# Altium footprint library Led_Matrix.PcbLib: 23 footprints (part 1 of 2)
Each footprint in its own frame and in the unit in brackets; x right, y up, seen from the top. Pads: shape width x height; smd on the part's side, far side on the other; paste and mask are expansions set on the pad; w line width, h text height; cw(c..) or ccw(c..) is an arc to the next point about the centre after c.
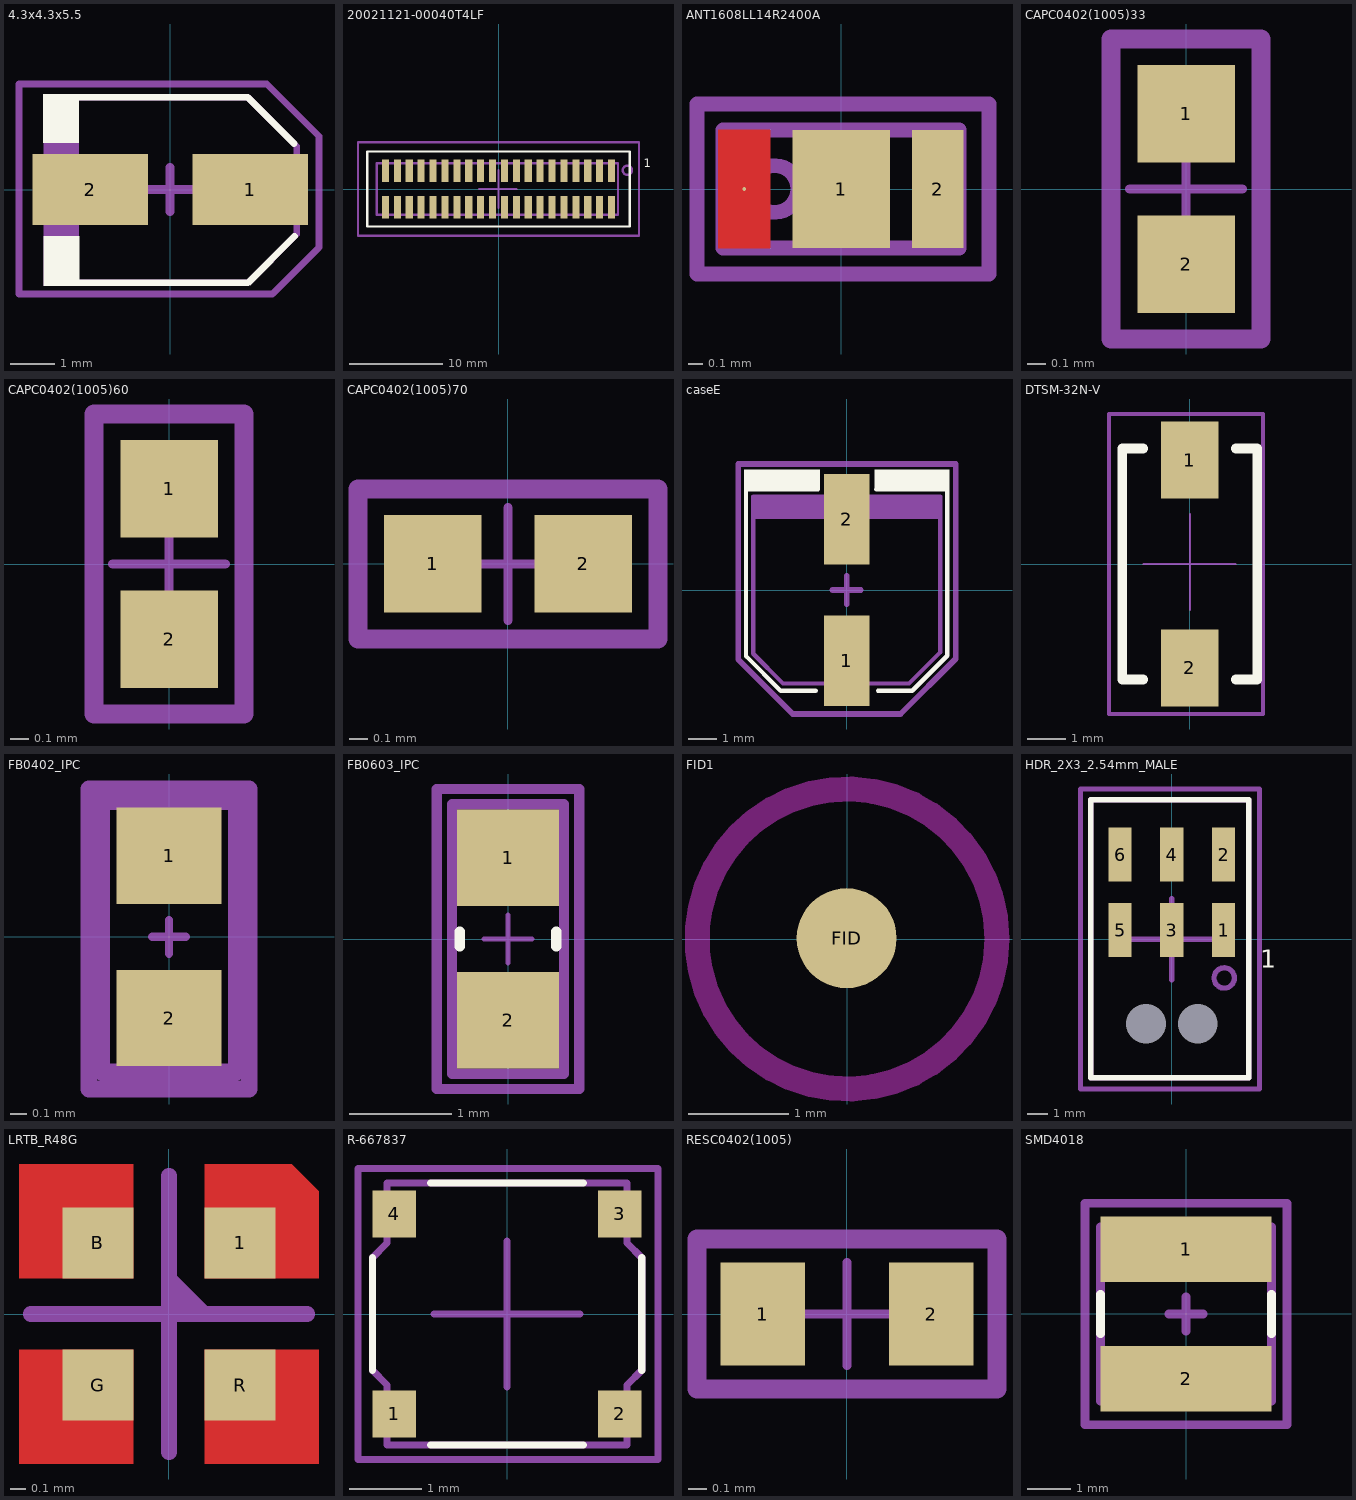
[diagram p0: the footprints below, top view; thin cyan lines are the x and y axes]

## 4.3x4.3x5.5 [mm]
height 5.5
pads (2):
  rect 2.6x1.6 smd: 1(1.8,0) 2(-1.8,0)
Top Overlay:
  region: -2.04,-1.05 -2.85,-1.05 -2.85,-2.175 -2.04,-2.175
  region: -2.05,2.15 -2.86,2.15 -2.86,1.05 -2.05,1.05
  lines w0.15: -2.775,-2.1 1.75,-2.1 2.8,-1.05 ; -2.775,2.075 1.75,2.075 2.788,1.037
Top Solder:
  text "+" at 3.925,-0.465 h2
Top Assembly:
  rectangle: -2.85,-2.175 -2.05,2.15
  lines w0.15: -2.75,-2.1 1.75,-2.1 2.85,-1 2.85,0.975 1.75,2.075 -2.75,2.075
  text "1" at 1.45,1 h1
Top Designator:
  text ".Designator" at -2.3,-0.1 h1
Top Value:
  text ".Comment" at -2.8,-1.739 h1
Top Courtyard:
  lines w0.15: -3.375,2.35 -3.4,2.375 ; -3.4,2.375 -3.4,2.15 -3.4,2.125 -3.4,-2.35 2.3,-2.35 3.35,-1.3 3.35,1.2 2.175,2.375 -3.4,2.375
  lines w0.2: -0.5,0 0.5,0 ; 0,-0.5 0,0.5
3D body "865060640002.stp": height 5.5, standoff 0, extent -2.725,-2.225 2.575,2.275

## 20021121-00040T4LF [mm]
pads (40):
  rect 0.76x2.4 smd: 1(12.065,1.95) 2(12.065,-1.95) 3(10.795,1.95) 4(10.795,-1.95) 5(9.525,1.95) 6(9.525,-1.95) 7(8.255,1.95) 8(8.255,-1.95) 9(6.985,1.95) 10(6.985,-1.95) 11(5.715,1.95) 12(5.715,-1.95) 13(4.445,1.95) 14(4.445,-1.95) 15(3.175,1.95) 16(3.175,-1.95) 17(1.905,1.95) 18(1.905,-1.95) 19(0.635,1.95) 20(0.635,-1.95) 21(-0.635,1.95) 22(-0.635,-1.95) 23(-1.905,1.95) 24(-1.905,-1.95) 25(-3.175,1.95) 26(-3.175,-1.95) 27(-4.445,1.95) 28(-4.445,-1.95) 29(-5.715,1.95) 30(-5.715,-1.95) 31(-6.985,1.95) 32(-6.985,-1.95) 33(-8.255,1.95) 34(-8.255,-1.95) 35(-9.525,1.95) 36(-9.525,-1.95) 37(-10.795,1.95) 38(-10.795,-1.95) 39(-12.065,1.95) 40(-12.065,-1.95)
Top Overlay:
  lines w0.254: -14,-4 -14,4 14,4 14,-4 -14,-4
  text "1" at 15.5,2 h1.52
Top Solder:
  text "1" at 15.5,2 h1.52
Top Assembly:
  circle w0.254: c13.75,2 r0.5
  lines w0.254: -13,2.75 -13,-2.75 12.65,-2.75 ; -12.9,2.75 12.75,2.75 12.75,-2.75
Top Designator:
  text ".Designator" at -8.4,-0.312 h1.52
Top Value:
  text ".Comment" at -13.3,-3.483 h1.52
Top Courtyard:
  lines w0.254: -2.075,0 -0.075,0 1.925,0 ; 0,-2 0,2 ; -15,-5 15,-5 15,5 -15,5 -15,-5
3D body "20021121-00040XXLFc.stp": height 4.51, standoff 0.01, extent -12.7,-2.75 12.7,2.75

## ANT1608LL14R2400A [mm]
pads (3):
  rect 0.66x0.8 smd paste-0.5 mask+0.05: 1(0,0)
  rect 0.35x0.8 smd paste-0.05 mask+0.05: 2(0.655,0)
  round 0.025 smd paste-0.05 mask+0.05: 3(-0.655,0)
Top Layer:
  region: -0.83,-0.4 -0.83,0.4 -0.48,0.4 -0.48,-0.4
Top Paste:
  region: 0.24,-0.055 0.04,-0.055 0.04,-0.305 0.24,-0.305
  rectangle: -0.24,-0.305 -0.04,-0.055
  region: 0.24,0.305 0.04,0.305 0.04,0.055 0.24,0.055
  rectangle: -0.24,0.055 -0.04,0.305
  rectangle: -0.785,-0.35 -0.535,0.35
Top Assembly:
  circle w0.1: c-0.45,0 r0.158
  lines w0.1: -0.8,-0.4 -0.8,0.4 0.8,0.4 0.8,-0.4 -0.8,-0.4
Top Designator:
  text ".Designator" at -0.142,0.062 h0.5
Top Value:
  text ".Comment" at -0.83,-0.394 h0.5
Top Courtyard:
  lines w0.1: -0.2,0 0.2,0 ; 0,-0.2 0,0.2 ; -0.975,-0.575 -0.975,0.575 1,0.575 1,-0.575 -0.975,-0.575
3D body: height 0.4, standoff 0, extent -0.8,-0.4 0.8,0.4

## CAPC0402(1005)33 [mm] "Chip Capacitor, Body 1.0x0.5mm, Height 0.33mm, IPC High Density"
height 0.33
pads (2):
  rect 0.52x0.52 smd mask+0.05: 1(0,0.4) 2(0,-0.4)
Top Assembly:
  lines w0.1: -0.4,-0.8 0.4,-0.8 0.4,0.8 -0.4,0.8 -0.4,-0.8
Top Designator:
  text ".Designator" at 0.132,0.629 h0.3
Top Value:
  text ".Comment" at -0.297,0.75 h0.3
Top Courtyard:
  lines w0.05: -0.3,0 0.3,0 ; 0,-0.3 0,0.3 ; -0.4,-0.8 0.4,-0.8 0.4,0.8 -0.4,0.8 -0.4,-0.8
3D body "User Library-C0402-1.step": height 0.5, standoff 0, extent -0.249,-0.493 0.251,0.503

## CAPC0402(1005)60 [mm] "Chip Capacitor, Body 1.0x0.5mm, Height 0.6mm, IPC High Density"
height 0.6
pads (2):
  rect 0.52x0.52 smd mask+0.05: 1(0,0.4) 2(0,-0.4)
Top Assembly:
  lines w0.1: -0.4,-0.8 0.4,-0.8 0.4,0.8 -0.4,0.8 -0.4,-0.8
Top Designator:
  text ".Designator" at 0.087,0.767 h0.5
Top Value:
  text ".Comment" at -0.394,0.8 h0.5
Top Courtyard:
  lines w0.05: -0.3,0 0.3,0 ; 0,-0.3 0,0.3 ; -0.4,-0.8 0.4,-0.8 0.4,0.8 -0.4,0.8 -0.4,-0.8
3D body "User Library-C0402-1.step": height 0.5, standoff 0, extent -0.249,-0.493 0.251,0.503

## CAPC0402(1005)70 [mm] "Chip Capacitor, Body 1.0x0.5mm, Height 0.7mm, IPC High Density"
height 0.7
pads (2):
  rect 0.52x0.52 smd: 1(-0.4,0) 2(0.4,0)
Top Assembly:
  lines w0.1: -0.8,-0.4 -0.8,0.4 0.8,0.4 0.8,-0.4 -0.8,-0.4
Top Designator:
  text ".Designator" at -0.767,0.087 h0.5
Top Value:
  text ".Comment" at -0.8,-0.344 h0.5
Top Courtyard:
  lines w0.05: -0.3,0 0.3,0 ; 0,-0.3 0,0.3 ; -0.8,-0.4 -0.8,0.4 0.8,0.4 0.8,-0.4 -0.8,-0.4
3D body: height 0.7, standoff 0, extent 0.3,-0.3 0.55,0.3
3D body: height 0.7, standoff 0, extent -0.55,-0.3 -0.3,0.3
3D body: height 0.7, standoff 0, extent -0.3,-0.3 0.3,0.3

## caseE [mm]
height 5.5
pads (2):
  rect 1.6x3.2 smd paste+0 mask+0.076: 1(0,-2.5) 2(0,2.5)
Top Overlay:
  region: -0.936,3.554 -0.936,4.26 -3.625,4.26 -3.625,3.554
  region: 3.625,3.554 3.625,4.26 0.975,4.26 0.975,3.554
  lines w0.152: -1.095,-3.556 -1.095,-3.554 -2.331,-3.554 -3.554,-2.331 -3.554,3.554 -1.01,3.554 ; 1.05,3.553 1.228,3.553 1.229,3.554 3.554,3.554 3.554,-2.316 2.315,-3.555 1.106,-3.555
Top Solder:
  text "+" at -0.79,-4.6 h2
Top Assembly:
  region: 3.3,2.5 3.3,3.3 -3.33,3.3 -3.33,2.5
  lines w0.152: -3.3,-2.246 -2.246,-3.3 2.2,-3.3 3.3,-2.2 3.3,3.3 -3.3,3.3 -3.3,-2.246
  text "1" at 0.35,-2.65 h1
Top Designator:
  text ".Designator" at -1.25,-2 h1
Top Value:
  text ".Comment" at 1.839,-4 h1
Top Courtyard:
  lines w0.2: -0.5,0 0.5,0 ; 0,-0.5 0,0.5 ; -3.825,-2.45 -1.9,-4.375 1.9,-4.375 3.85,-2.425 3.85,4.45 -3.825,4.45 -3.825,-2.45
3D body "CAP2_5_6P6X6P6X5P5.stp": height 5.4, standoff 0, extent -3.3,-3.5 3.3,3.5

## DTSM-32N-V [mm] "tactile button 160gf"
height 5
pads (2):
  rect 1.5x2 smd: 1(0,2.7) 2(0,-2.7)
Top Overlay:
  lines w0.254: -1.209,-3 -1.759,-3 -1.759,3 -1.209,3.005 ; 1.191,-3 1.75,-3 1.75,3 ; 1.191,3 1.75,3.005
Top Assembly:
  lines w0.1: -2.1,-3.9 1.9,-3.9 1.9,3.9 -2.1,3.9 -2.1,-3.9
Top Designator:
  text ".Designator" at 0.9,2 h1
Top Value:
  text ".Comment" at -1.439,3.65 h1
Top Courtyard:
  lines w0.05: -1.209,0 0,0 ; 0,-1.2 0,0 ; 0,1.3 0,0 ; 1.191,0 0,0 ; -2.1,-3.9 -2.1,3.9 1.9,3.9 1.9,-3.9 -2.1,-3.9
3D body "4341x3.stp": height 5, standoff 0, extent -1.75,-3.65 1.75,3.65

## FB0402_IPC [mm]
pads (2):
  rect 0.62x0.57 smd paste+0 mask+0.03: 1(0,0.48) 2(0,-0.48)
Top Assembly:
  lines w0.1: -0.4,-0.8 0.4,-0.8 0.4,0.8 -0.4,0.8 -0.4,-0.8
Top Designator:
  text ".Designator" at 0.1,0.6 h0.5
Top Value:
  text ".Comment" at -0.344,0.8 h0.5
Top Courtyard:
  lines w0.05: -0.1,0 0.1,0 ; 0,-0.1 0,0.1
  lines w0.1: -0.475,-0.9 -0.475,0.875 0.475,0.875 0.475,-0.9 -0.475,-0.9
3D body "User Library-FB_1005.STEP": height 0.48, standoff -0.02, extent -0.25,-0.5 0.25,0.5

## FB0603_IPC [mm]
pads (2):
  rect 1x0.95 smd paste+0 mask+0.05: 1(0,0.8) 2(0,-0.8)
Top Overlay:
  lines w0.1: -0.475,-0.075 -0.475,0.075 ; 0.475,-0.075 0.475,0.075
Top Assembly:
  lines w0.1: -0.55,-1.325 -0.55,1.325 0.55,1.325 0.55,-1.325 -0.55,-1.325
Top Designator:
  text ".Designator" at 0.1,1.05 h0.7
Top Value:
  text ".Comment" at -0.542,1.3 h0.7
Top Courtyard:
  lines w0.05: -0.238,0 0.237,0 ; 0,-0.237 0,0.238
  lines w0.1: -0.7,-1.475 -0.7,1.475 0.7,1.475 0.7,-1.475 -0.7,-1.475
3D body "User Library-FB_1608-1.STEP": height 0.78, standoff -0.02, extent -0.4,-0.8 0.4,0.8

## FID1 [mm]
height 2.2
pads (1):
  round 1 smd paste-0.5 mask+0.75: FID(-0.004,0.008)
Top Layer keep-out:
  circle w0.25: c0,0 r1.5
Top Designator:
  text ".Designator" at -0.85,0.425 h1

## HDR_2X3_2.54mm_MALE [mm]
pads (8):
  rect 1.15x2.65 smd: 1(2.54,0.45) 2(2.54,4.15) 3(0,0.45) 4(0,4.15) 5(-2.54,0.45) 6(-2.54,4.15)
  round 0 hole 1.95 unplated: H1(1.27,-4.15) H2(-1.27,-4.15)
Top Overlay:
  lines w0.254: -3.975,-6.8 -3.975,6.85 3.775,6.85 3.775,-6.8 -3.975,-6.8
  text "1" at 4.35,-1.7 h1.52
Top Solder:
  text "1" at 4.35,0.05 h1.52
Top Assembly:
  circle w0.254: c2.575,-1.9 r0.5
  lines w0.254: -3.975,-6.8 -3.975,6.85 3.775,6.85 3.775,-6.8 -3.85,-6.8
Top Designator:
  text ".Designator" at -4.4,-0.612 h1.52
Top Value:
  text ".Comment" at -4.3,-5.483 h1.52
Top Courtyard:
  lines w0.254: -2.075,0 -0.075,0 1.925,0 ; 0,-2 0,2 ; -4.477,-7.35 -4.477,7.375 4.31,7.375 4.31,-7.35 -4.477,-7.35
3D body "610106249121 (rev1).stp": height 5.09, standoff -1.39, extent -3.81,-11.385 3.81,4.775

## LRTB_R48G [mm]
height 0.75
pads (4):
  rect 0.45x0.45 smd mask+0.05: 1(0.45,0.45) B(-0.45,0.45) G(-0.45,-0.45) R(0.45,-0.45)
Top Layer:
  region: -0.225,0.95 -0.95,0.95 -0.95,0.225 -0.225,0.225
  region: -0.225,-0.225 -0.95,-0.225 -0.95,-0.95 -0.225,-0.95
  rectangle: 0.225,-0.95 0.95,-0.225
  region: 0.225,0.225 0.95,0.225 0.95,0.777 0.777,0.95 0.225,0.95
Top Assembly:
  lines w0.1: -0.875,0 0,0 ; 0,-0.875 0,0 ; 0,0.225 0.225,0 ; 0,0.875 0,0 ; 0.112,0.112 0,0 ; 0.875,0 0,0
3D body: height 0.3, standoff 0.01, extent -0.5,-0.5 0.5,0.5
3D body: height 0.65, standoff 0.3, extent -0.5,-0.5 0.5,0.5

## R-667837 [mm]
pads (4):
  rect 0.6x0.65 smd mask+0.075: 1(-1.55,-1.375) 2(1.55,-1.375) 3(1.55,1.375) 4(-1.55,1.375)
Top Overlay:
  lines w0.1: -1.85,-0.775 -1.85,0.775 ; -1.05,-1.8 1.05,-1.8 ; -1.05,1.8 1.05,1.8 ; 1.85,-0.775 1.85,0.775
Top Assembly:
  lines w0.1: -1.85,-0.775 -1.85,0.775 -1.65,0.975 -1.65,1.8 1.65,1.8 1.65,0.975 1.85,0.775 1.85,-0.775 1.65,-0.975 1.65,-1.8 -1.65,-1.8 -1.65,-0.975 -1.85,-0.775
Top Designator:
  text ".Designator" at -0.5,0.3 h0.7
Top Value:
  text ".Comment" at -1.8,-1 h0.7
Top Courtyard:
  lines w0.1: -1,0 1,0 ; 0,-1 0,1 ; -2.05,-2 -2.05,2 2.075,2 2.075,-2 -2.05,-2
3D body: height 0.35, standoff 0, extent -1.85,-1.8 1.85,1.8
3D body: height 0.4, standoff 0.32, extent -0.999,-1.008 1.001,0.992

## RESC0402(1005) [mm] "Chip Resistor, Body 1.0x0.5mm, IPC High Density"
height 0.4
pads (2):
  rect 0.45x0.55 smd: 1(-0.45,0) 2(0.45,0)
Top Assembly:
  lines w0.1: -0.8,-0.4 -0.8,0.4 0.8,0.4 0.8,-0.4 -0.8,-0.4
Top Designator:
  text ".Designator" at -0.617,0.037 h0.5
Top Value:
  text ".Comment" at -0.7,-0.297 h0.3
Top Courtyard:
  lines w0.05: -0.275,0 0.275,0 ; 0,-0.275 0,0.275 ; -0.8,-0.4 -0.8,0.4 0.8,0.4 0.8,-0.4 -0.8,-0.4
3D body: height 0.4, standoff 0, extent 0.3,-0.275 0.525,0.275
3D body: height 0.4, standoff 0, extent -0.3,-0.275 0.3,0.275
3D body: height 0.4, standoff 0, extent -0.525,-0.275 -0.3,0.275

## SMD4018 [mm]
pads (2):
  rect 3.89x1.5 smd mask+0.07: 1(0,1.475) 2(0,-1.475)
Top Overlay:
  lines w0.2: -1.95,-0.45 -1.95,0.45 ; 1.95,-0.45 1.95,0.45
Top Assembly:
  lines w0.2: -1.95,-1.99 -1.95,1.99 1.95,1.99 1.95,-1.99 -1.95,-1.99
  text "1" at -0.35,1.6 h1
Top Designator:
  text ".Designator" at 0.85,1.4 h1
Top Value:
  text ".Comment" at -1.739,2.2 h1
Top Courtyard:
  lines w0.2: -0.387,0 0.387,0 ; 0,-0.387 0,0.387 ; -2.3,-2.525 -2.3,2.525 2.3,2.525 2.3,-2.525 -2.3,-2.525
3D body "Coilcraft-LPS4012.step": height 1.2, standoff 0, extent -1.99,-1.99 1.99,1.99